# EAGLE library part AD8510ARZ-REEL (library AD8510ARZ-REEL)
Precision, Very Low Noise, Low Input Bias Current, Wide Bandwidth JFET Single Operational Amplifier Source: Datasheet <https://www.analog.com/AD8510/datasheet>
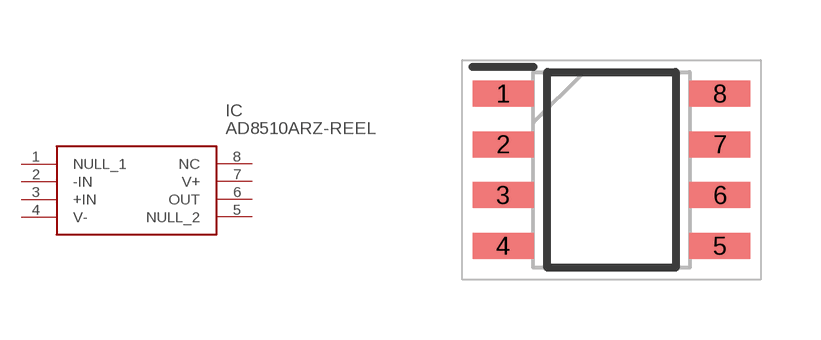
[diagram p0: symbol with the pads of SOIC127P600X175-8N; footprint SOIC127P600X175-8N]

Designator prefix IC

## AD8510ARZ-REEL (Description: Precision, Very Low Noise, Low Input Bias Current, Wide Bandwidth JFET Single Operational Amplifier; Height: 1.75mm; Manufacturer_Name: Analog Devices; Manufacturer_Part_Number: AD8510ARZ-REEL; Mouser_Part_Number: 584-AD8510ARZ-R; Mouser_Price-Stock: https://www.mouser.co.uk/ProductDetail/Analog-Devices/AD8510ARZ-REEL?qs=%2FtpEQrCGXCwXL7drMaFeVQ%3D%3D)  [SOIC127P600X175-8N]
1  NULL_1
2  -IN
3  +IN
4  V-
5  NULL_2
6  OUT
7  V+
8  NC  nc

## Footprint SOIC127P600X175-8N (pad centres in mm)
R-8_2022
smd 1.525 x 0.65: 1 -2.712,1.905; 2 -2.712,0.635; 3 -2.712,-0.635; 4 -2.712,-1.905; 5 2.712,-1.905; 6 2.712,-0.635; 7 2.712,0.635; 8 2.712,1.905